# Altium schematic symbol library AD22151.SchLib: 1 symbol
Pins are listed as number, name and electrical type; pins without a type are passive.

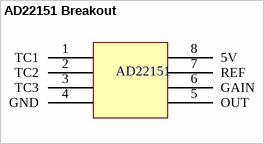
[diagram p0: symbol AD22151 Breakout]

## AD22151 Breakout
designator AD22151  (value not drawn)
Magnetic Field Sensor
footprint DIP-8 (DIP; 8 Leads; Row Spacing 7.62 mm; Pitch 2.54 mm)
pins: 1 TC1, 2 TC2, 3 TC3, 4 GND, 5 OUT, 6 GAIN, 7 REF, 8 5V